# Altium footprint library WE-EPLE.PcbLib: 1 footprints
Each footprint in its own frame and in the unit in brackets; x right, y up, seen from the top. Pads: shape width x height; smd on the part's side, far side on the other; paste and mask are expansions set on the pad; w line width, h text height; cw(c..) or ccw(c..) is an arc to the next point about the centre after c.
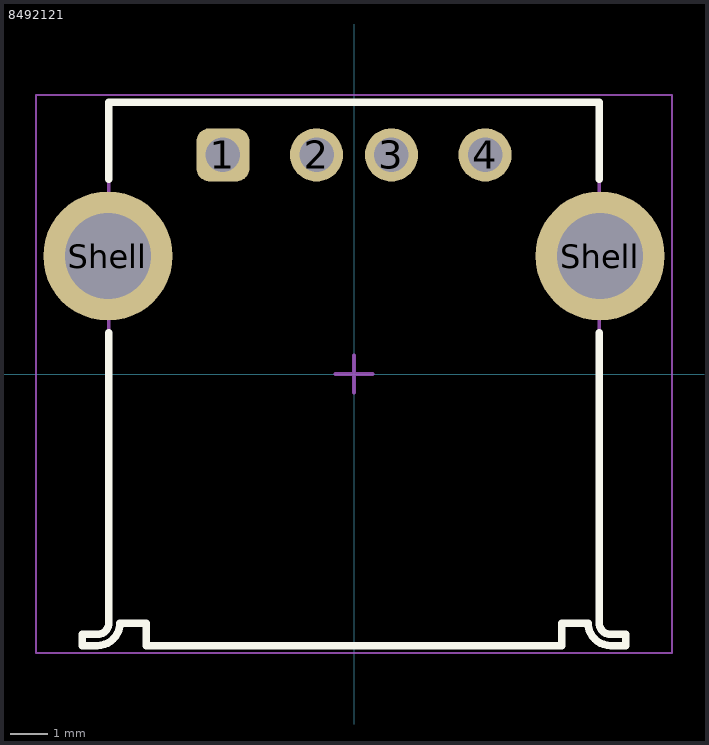
[diagram p0: the footprint, top view; thin cyan lines are the x and y axes]

## 8492121 [mm] "THT, USB 2.0 A Connector, 4Pin, Body 15.8 x14.5mm"
height 7.32
pads (6):
  rrect50% 1.42x1.42 hole 0.92: 1(-3.5,5.85)
  round 1.42 hole 0.92: 2(-1,5.85) 3(1,5.85) 4(3.5,5.85)
  round 3.45 hole 2.3: Shell(-6.57,3.15) Shell(6.57,3.15)
Top Overlay:
  lines w0.2: -6.55,1.1 -6.55,-6.65 cw(c-6.85,-6.65) -6.85,-6.95 -7.25,-6.95 -7.25,-7.25 -6.85,-7.25 ccw(c-6.85,-6.65) -6.25,-6.65 -5.55,-6.65 -5.55,-7.25 5.55,-7.25 5.55,-6.65 6.25,-6.65 ccw(c6.85,-6.65) 6.85,-7.25 7.25,-7.25 7.25,-6.95 6.85,-6.95 cw(c6.85,-6.65) 6.55,-6.65 6.55,1.1 ; -6.55,5.2 -6.55,7.25 6.55,7.25 6.55,5.2
Top Assembly:
  lines w0.1: -7.25,-7.25 -6.85,-7.25 ccw(c-6.85,-6.65) -6.25,-6.65 -5.55,-6.65 -5.55,-7.25 5.55,-7.25 5.55,-6.65 6.25,-6.65 ccw(c6.85,-6.65) 6.85,-7.25 7.25,-7.25 7.25,-6.95 6.85,-6.95 cw(c6.85,-6.65) 6.55,-6.65 6.55,7.25 -6.55,7.25 -6.55,-6.65 cw(c-6.85,-6.65) -6.85,-6.95 -7.25,-6.95 -7.25,-7.25
Top Designator:
  text ".Designator" at -3.647,-0.357 h1
Top Courtyard:
  lines w0.05: -8.495,-7.45 8.495,-7.45 8.495,7.45 -8.495,7.45 -8.495,-7.45
Top Component Center:
  lines w0.1: -0.5,0 0.5,0 ; 0,-0.5 0,0.5
3D body "STEP-WE-EPLE_SIZE-rev1.stp": height 7.6, standoff -3.69, extent -7.882,-7.25 7.881,7.25